# Altium schematic symbol library 1N4148.SchLib: 1 symbol
Pins are listed as number, name and electrical type; pins without a type are passive.

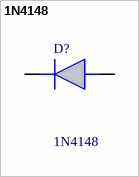
[diagram p0: symbol 1N4148]

## 1N4148
designator D?
Small Signal Diode, 100V 0.3A 2-Pin DO35; Manufacturer_Name: onsemi; Mouser Part Number: 512-1N4148; Mouser Price/Stock: https://www.mouser.co.uk/ProductDetail/onsemi-Fairchild/1N4148?qs=i4Fj9T%2FoRm8RMUhj5DeFQg%3D%3D; Manufacturer_Part_Number: 1N4148; Datasheet Link: *
footprint DIOAD1068W53L380D172
pins: 1 K, 2 A